# Altium schematic symbol library Analog Devices DAC.SchLib: 2 symbols
Pins are listed as number, name and electrical type; pins without a type are passive.

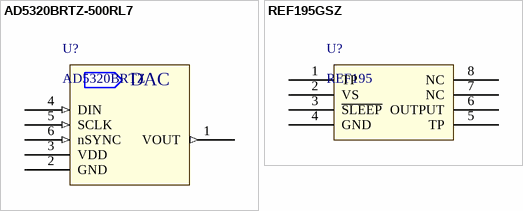
[diagram p0: symbols AD5320BRTZ-500RL7 to REF195GSZ]

## AD5320BRTZ-500RL7
designator U?, comment AD5320BRTZ
Manufacturer: Analog Devices; Manufacturer Part Number: AD5320BRTZ
footprint SOT23-6 (SOT23, 5-Leads, Body 2.90x2.45mm, Pitch 0.95mm, IPC Medium Density)
pins: 1 VOUT (out), 2 GND, 3 VDD, 4 DIN (in), 5 SCLK (in), 6 nSYNC (in)
text: DAC

## REF195GSZ
designator U?, comment REF195
Precision Micropower,  Low Dropout Voltage References; Manufacturer Part Number: REF195GSZ; Manufacturer: Analog Devices
footprint SOIC-8-3.9 (SOIC, 8-Leads, Body 4.91x3.80mm, Pitch 1.27mm, IPC Medium Density)
pins: 1 TP, 2 VS, 3 ~{SLEEP}, 4 GND, 5 TP, 6 OUTPUT, 7 NC, 8 NC